# EAGLE library part ISO7816-SMARTCARD (library Smartcard)
ISO 7816 SmartCard and CardSocket
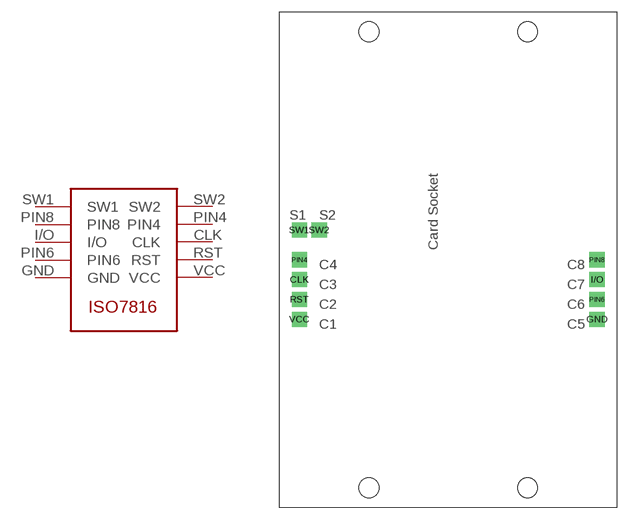
[diagram p0: symbol with the pads of CARDSOCKET; footprint CARDSOCKET]

Designator prefix -

## ISO7816-SMARTCARD  [CARDSOCKET]
CLK  CLK
GND  GND
I/O  I/O
PIN4  PIN4
PIN6  PIN6
PIN8  PIN8
RST  RST
SW1  SW1
SW2  SW2
VCC  VCC

## Footprint CARDSOCKET (pad centres in mm)
ISO 7816 CARD SOCKET
drill 0.813 pad 1.93 square: CLK -25.4,2.54; GND 12.7,-2.54; I/O 12.7,2.54; PIN4 -25.4,5.08; PIN6 12.7,0; PIN8 12.7,5.08; RST -25.4,0; SW1 -25.4,8.89; SW2 -22.86,8.89; VCC -25.4,-2.54
hole 2.54 at 3.81,34.29
hole 2.54 at -16.51,34.29
hole 2.54 at 3.81,-24.13
hole 2.54 at -16.51,-24.13